# Altium schematic symbol library Schlib.SchLib: 9 symbols
Pins are listed as number, name and electrical type; pins without a type are passive.

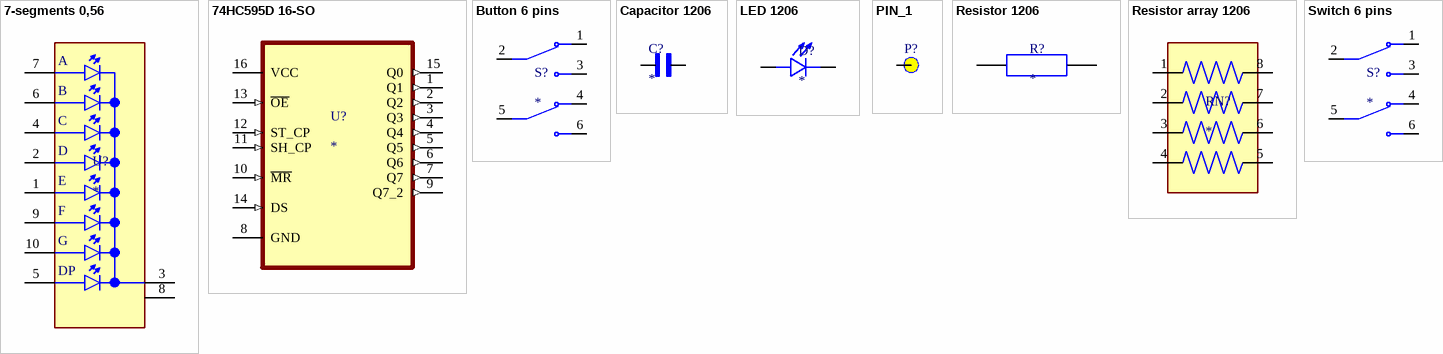
[diagram p0: symbols 7-segments 0,56 to Switch 6 pins]

## 7-segments 0,56
designator U?
.56IN. 7 SEGMENT SINGLE DISPLAY, 565NM GREEN, GRAY FACE, WHITE SEGMENTS, COMMON | Lumex LDS-C512RI; SnapEDA_Link: https://www.snapeda.com/parts/LDS-C512RI/Lumex/view-part/?ref=snap; Package: None; Value: *; MF: Lumex; MP: LDS-C512RI; Check_prices: https://www.snapeda.com/parts/LDS-C512RI/Lumex/view-part/?ref=eda
footprint 7-segments 0,56
pins: 1 E, 2 D, 3 CC, 4 C, 5 DP, 6 B, 7 A, 8 CC, 9 F, 10 G

## 74HC595D 16-SO
designator U?
Shift Shift Register 1 Element 8 Bit 16-SO; MF: NXP USA; MP: 74HC595D/AUJ; SnapEDA_Link: https://www.snapeda.com/parts/74HC595D/AUJ/NXP+Semiconductors/view-part/?ref=snap; Package: SOIC-16 ON Semiconductor; Value: *; Check_prices: https://www.snapeda.com/parts/74HC595D/AUJ/NXP+Semiconductors/view-part/?ref=eda
footprint 74HC595 SO-16
pins: 1 Q1 (out), 2 Q2 (out), 3 Q3 (out), 4 Q4 (out), 5 Q5 (out), 6 Q6 (out), 7 Q7 (out), 8 GND, 9 Q7_2 (out), 10 ~{MR} (in), 11 SH_CP (in), 12 ST_CP (in), 13 ~{OE} (in), 14 DS (in), 15 Q0 (out), 16 VCC (power)

## Button 6 pins
designator S?
Pushbutton Switch DPDT Standard Through Hole; MF: E-Switch; MP: TL2201EEZA; SnapEDA_Link: https://www.snapeda.com/parts/TL2201EEZA/E-Switch/view-part/?ref=snap; Package: None; Value: *; Check_prices: https://www.snapeda.com/parts/TL2201EEZA/E-Switch/view-part/?ref=eda
footprint Button 6 pins
pins: 1, 2, 3, 4, 5, 6

## Capacitor 1206
designator C?
MF: AVX; MP: 12061C225K4T2A; SnapEDA_Link: https://www.snapeda.com/parts/12061C225K4T2A/AVX/view-part/?ref=snap; Package: 3216 AVX; Value: *; Check_prices: https://www.snapeda.com/parts/12061C225K4T2A/AVX/view-part/?ref=eda
footprint Capacitor 1206
pins: 1, 2

## LED 1206
designator D?
MF: Lite-On Inc.; MP: LTST-C230KGKT; SnapEDA_Link: https://www.snapeda.com/parts/LTST-C230KGKT/Lite-On/view-part/?ref=snap; Package: 1206 Lite-On; Value: *; Check_prices: https://www.snapeda.com/parts/LTST-C230KGKT/Lite-On/view-part/?ref=eda
footprint LED 1206
pins: A, C

## PIN_1
designator P?  (no BOM)
footprint PCB_Pin_1
pins: 0 Pin

## Resistor 1206
designator R?
MP: ERJU08F4703V; Package: None; Price: None; Availability: Unavailable; Value: *
footprint Resistor 1206
pins: 1, 2

## Resistor array 1206
designator RN?
Resistor,Thick Film,Networks & Arrays,330 Ohm,5%,8 Pin | Bourns CAY16-331J4LF; SnapEDA_Link: https://www.snapeda.com/parts/CAY16-331J4LF/Bourns/view-part/?ref=snap; Package: NON STANDARD-8 Bourns; Value: *; MF: Bourns; MP: CAY16-331J4LF; Check_prices: https://www.snapeda.com/parts/CAY16-331J4LF/Bourns/view-part/?ref=eda
footprint Resistor array 1206
pins: 1, 2, 3, 4, 5, 6, 7, 8

## Switch 6 pins
designator S?
Switch MSK-22D18G2; MF: E-Switch; MP: TL2201EEZA; SnapEDA_Link: https://www.snapeda.com/parts/TL2201EEZA/E-Switch/view-part/?ref=snap; Package: None; Value: *; Check_prices: https://www.snapeda.com/parts/TL2201EEZA/E-Switch/view-part/?ref=eda
footprint Switch 6 pins
pins: 1, 2, 3, 4, 5, 6